# EAGLE library part MM74HC02N (library Fairchild_By_element14_Batch_1)
Quad 2-Input NOR Gate
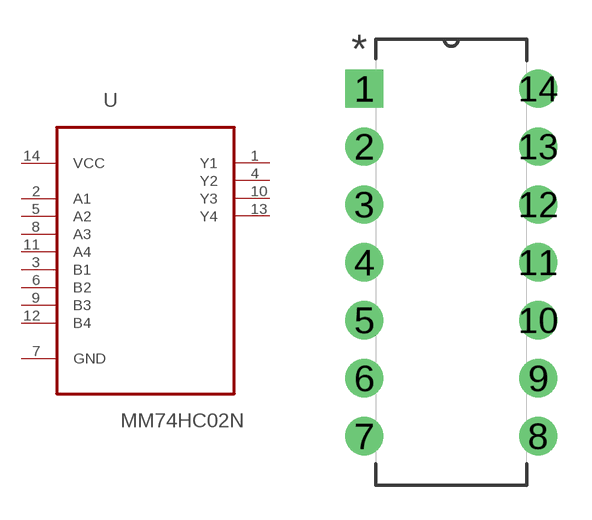
[diagram p232: symbol with the pads of DIP254P762X533-14; footprint DIP254P762X533-14]

Designator prefix U

## MM74HC02N (MPN: MM74HC02N; OC_FARNELL: 1013911; OC_NEWARK: -; PACKAGE: PDIP-14; SUPPLIER: Fairchild)  [DIP254P762X533-14]
1  Y1  out
2  A1  in
3  B1  in
4  Y2  out
5  A2  in
6  B2  in
7  GND  pas
8  A3  in
9  B3  in
10  Y3  out
11  A4  in
12  B4  in
13  Y4  out
14  VCC  pwr

## Footprint DIP254P762X533-14 (pad centres in mm)
drill 1.118 square: 1 -7.62,15.24
drill 1.118: 2 -7.62,12.7; 3 -7.62,10.16; 4 -7.62,7.62; 5 -7.62,5.08; 6 -7.62,2.54; 7 -7.62,0; 8 0,0; 9 0,2.54; 10 0,5.08; 11 0,7.62; 12 0,10.16; 13 0,12.7; 14 0,15.24